# Altium footprint library Connector_Footprints.PcbLib: 5 footprints
Each footprint in its own frame and in the unit in brackets; x right, y up, seen from the top. Pads: shape width x height; smd on the part's side, far side on the other; paste and mask are expansions set on the pad; w line width, h text height; cw(c..) or ccw(c..) is an arc to the next point about the centre after c.
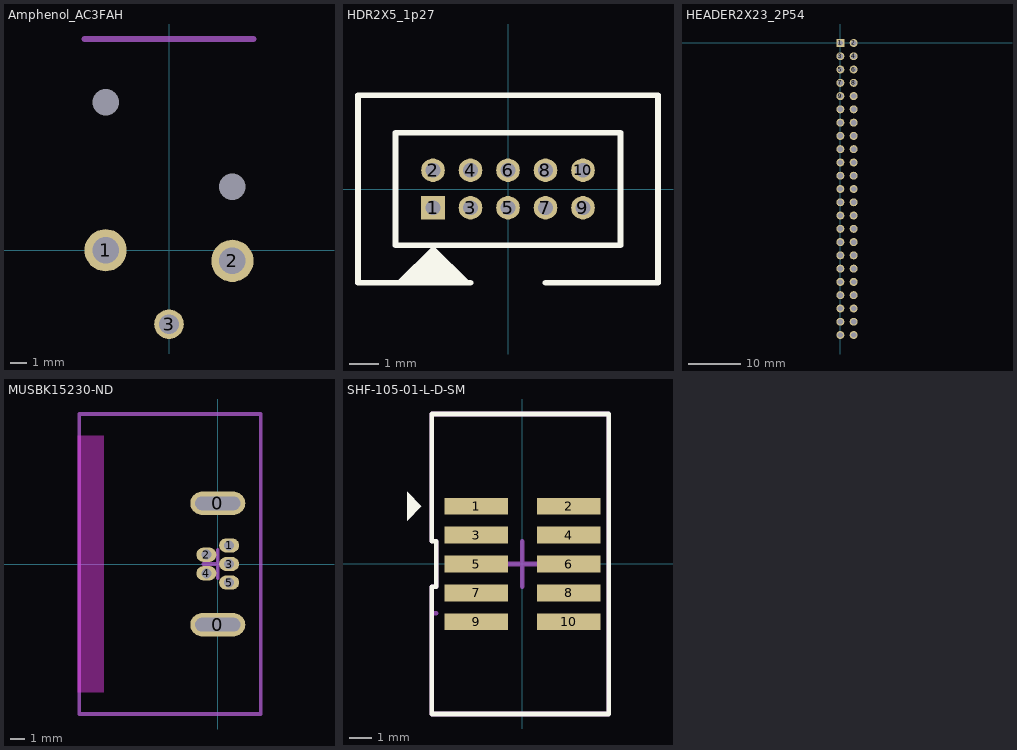
[diagram p0: the footprints below, top view; thin cyan lines are the x and y axes]

## Amphenol_AC3FAH [mm]
pads (5):
  round 0 hole 1.6: 0(-3.81,8.89) 0(3.81,3.81)
  round 2.54 hole 1.6: 1(-3.81,0) 2(3.81,-0.635)
  round 1.778 hole 1.194: 3(0,-4.445)
Mechanical 13:
  lines w0.381: -5.08,12.7 5.08,12.7

## HDR2X5_1p27 [mm] "2 row, 5 pin header, 1.27mm pitch"
pads (10):
  rect 0.8x0.8 hole 0.5: 1(-2.54,-0.635)
  round 0.8 hole 0.5: 2(-2.54,0.635) 3(-1.27,-0.635) 4(-1.27,0.635) 5(0,-0.635) 6(0,0.635) 7(1.27,-0.635) 8(1.27,0.635) 9(2.54,-0.635) 10(2.54,0.635)
Top Overlay:
  region: -3.78,-3.165 -2.53,-1.915 -1.28,-3.165
  lines w0.2: -1.27,-3.175 -5.08,-3.175 -5.08,3.175 5.08,3.175 5.08,-3.175 1.27,-3.175 ; -3.81,-1.905 3.81,-1.905 3.81,1.905 -3.81,1.905 -3.81,-1.905

## HEADER2X23_2P54 [mil] "2 row by 23 pin header, 2.54mm pitch"
pads (46):
  rect 60x60 hole 40: 1(0,0)
  round 60 hole 40: 2(100,0) 3(0,-100) 4(100,-100) 5(0,-200) 6(100,-200) 7(0,-300) 8(100,-300) 9(0,-400) 10(100,-400) 11(0,-500) 12(100,-500) 13(0,-600) 14(100,-600) 15(0,-700) 16(100,-700) 17(0,-800) 18(100,-800) 19(0,-900) 20(100,-900) 21(0,-1000) 22(100,-1000) 23(0,-1100) 24(100,-1100) 25(0,-1200) 26(100,-1200) 27(0,-1300) 28(100,-1300) 29(0,-1400) 30(100,-1400) 31(0,-1500) 32(100,-1500) 33(0,-1600) 34(100,-1600) 35(0,-1700) 36(100,-1700) 37(0,-1800) 38(100,-1800) 39(0,-1900) 40(100,-1900) 41(0,-2000) 42(100,-2000) 43(0,-2100) 44(100,-2100) 45(0,-2200) 46(100,-2200)

## MUSBK15230-ND [mm] "USB Micro AB, panel mount"
height 11
pads (7):
  oval 3.85x1.65 hole 0.95 slot 3.15 at 0 deg: 0(0,-4.25) 0(0,4.25)
  oval 1.4x1 hole 0.7: 1(0.8,1.3) 2(-0.8,0.65) 3(0.8,0) 4(-0.8,-0.65) 5(0.8,-1.3)
Keep-Out Layer:
  rectangle: -9.825,-9 -7.95,9
Mechanical 9:
  lines w0.254: -9.7,10.45 -9.7,-10.5 2.95,-10.5 ; -9.7,10.5 2.95,10.5 ; 3,-10.5 3,10.5
  text ".Designator" at -5.65,-0.35 h1.52
Mechanical 15:
  lines w0.25: -1,0 1,0 ; 0,-1 0,1
  lines w0.254: 2.9,-10.5 -9.7,-10.5 -9.7,10.5 2.9,10.5 ; 3,-10.5 3,10.5
3D body "M-MUSB-K152-30-REVT3.STEP": height 7.75, standoff -3.5, extent -8.815,-10 1.715,10

## SHF-105-01-L-D-SM [mm] "2x5 way header, 1.27mm pitch, vertical"
height 5.46
pads (10):
  rect 2.8x0.74 smd: 1(-2.035,2.54) 2(2.035,2.54) 3(-2.035,1.27) 4(2.035,1.27) 5(-2.035,0) 6(2.035,0) 7(-2.035,-1.27) 8(2.035,-1.27) 9(-2.035,-2.54) 10(2.035,-2.54)
Top Overlay:
  region: -5.08,3.175 -4.445,2.54 -5.08,1.905
  lines w0.2: -4,-6.604 -4,-1 -3.8,-1 -3.8,1 -4,1 -4,6.604 3.81,6.604 3.81,-6.604 -4,-6.604
Mechanical 9:
  lines w0.05: -4,-2.175 -3.8,-2.175 ; -4,1 -4,6.604 3.81,6.604 3.81,-6.604 -4,-6.604 -4,-1 -3.8,-1 -3.8,1
  text ".Designator" at -0.474,-0.203 h0.3
Mechanical 15:
  lines w0.2: -4,-2.175 -3.8,-2.175 ; -4,1 -4,6.604 3.81,6.604 3.81,-6.604 -4,-6.604 -4,-1 -3.8,-1 -3.8,1 ; -1,0 1,0 ; 0,-1 0,1
3D body "SHF-105-01-L-D-SM_2_14.stp": height 5.43, standoff -0.03, extent -3.048,-6.35 3.048,6.35